# Altium footprint library Package_DIP.PcbLib: 281 footprints (part 8 of 18)
Each footprint in its own frame and in the unit in brackets; x right, y up, seen from the top. Pads: shape width x height; smd on the part's side, far side on the other; paste and mask are expansions set on the pad; w line width, h text height; cw(c..) or ccw(c..) is an arc to the next point about the centre after c.
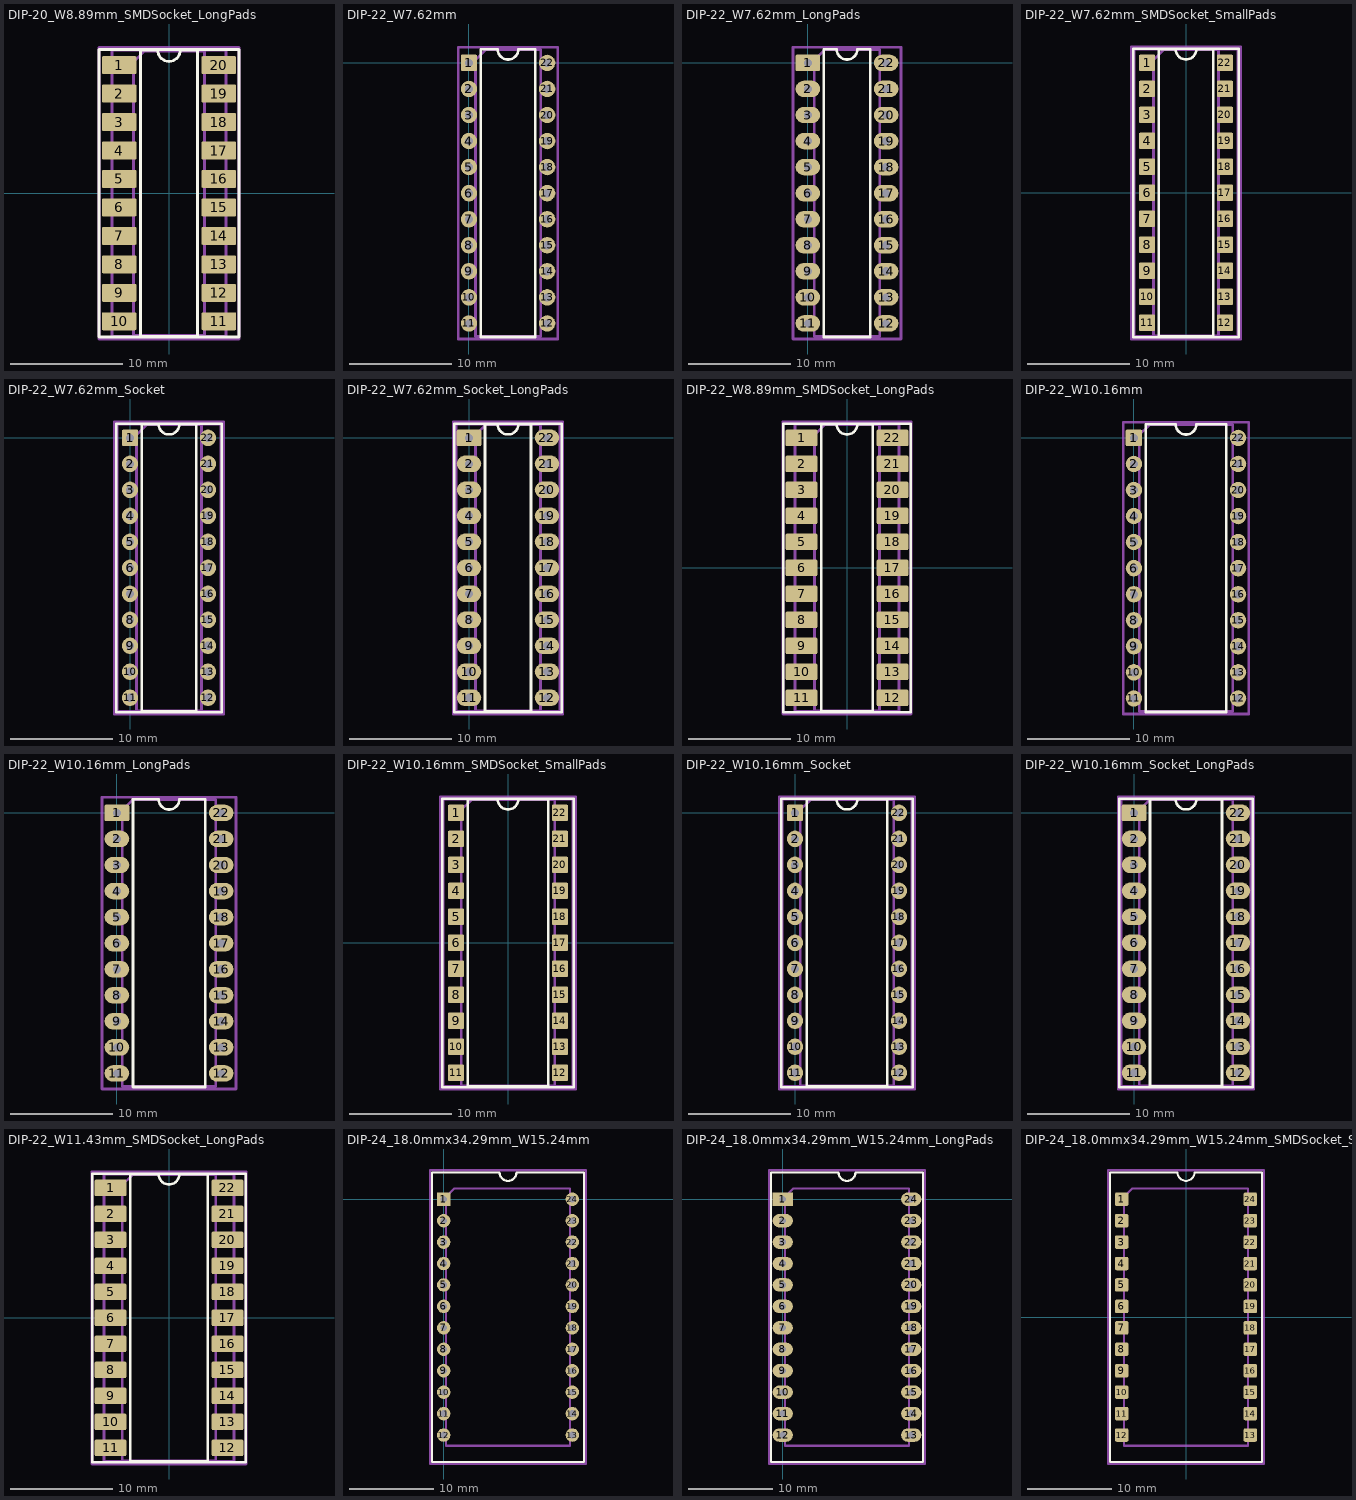
[diagram p7: the footprints below, top view; thin cyan lines are the x and y axes]

## DIP-20_W8.89mm_SMDSocket_LongPads [mm]
pads (20):
  rrect16% 3.1x1.6 smd: 1(-4.445,11.43) 2(-4.445,8.89) 3(-4.445,6.35) 4(-4.445,3.81) 5(-4.445,1.27) 6(-4.445,-1.27) 7(-4.445,-3.81) 8(-4.445,-6.35) 9(-4.445,-8.89) 10(-4.445,-11.43) 11(4.445,-11.43) 12(4.445,-8.89) 13(4.445,-6.35) 14(4.445,-3.81) 15(4.445,-1.27) 16(4.445,1.27) 17(4.445,3.81) 18(4.445,6.35) 19(4.445,8.89) 20(4.445,11.43)
F.SilkS:
  lines w0.254: -6.235,-12.82 6.235,-12.82 6.235,12.82 -6.235,12.82 -6.235,-12.82 ; -2.535,-12.76 2.535,-12.76 2.535,12.76 1,12.76 cw(c0,12.76) -1,12.76 -2.535,12.76 -2.535,-12.76
Top Assembly:
  lines w0.254: -5.08,-12.76 5.08,-12.76 5.08,12.76 -5.08,12.76 -5.08,-12.76 ; -3.175,-12.7 3.175,-12.7 3.175,12.7 -2.175,12.7 -3.175,11.7 -3.175,-12.7
  text "'.Designator'" at 0.84,-4.047 h1
Top Courtyard:
  lines w0.254: -6.25,-13.01 6.25,-13.01 6.25,13.01 -6.25,13.01 -6.25,-13.01
Top Designator:
  text ".Designator" at -7.618,-0.508 h1.52

## DIP-22_W7.62mm [mm]
pads (22):
  rrect16% 1.6x1.6 hole 0.8: 1(0,0)
  round 1.6 hole 0.8: 2(0,-2.54) 3(0,-5.08) 4(0,-7.62) 5(0,-10.16) 6(0,-12.7) 7(0,-15.24) 8(0,-17.78) 9(0,-20.32) 10(0,-22.86) 11(0,-25.4) 12(7.62,-25.4) 13(7.62,-22.86) 14(7.62,-20.32) 15(7.62,-17.78) 16(7.62,-15.24) 17(7.62,-12.7) 18(7.62,-10.16) 19(7.62,-7.62) 20(7.62,-5.08) 21(7.62,-2.54) 22(7.62,0)
F.SilkS:
  lines w0.254: 1.16,-26.73 6.46,-26.73 6.46,1.33 4.81,1.33 cw(c3.81,1.33) 2.81,1.33 1.16,1.33 1.16,-26.73
Top Assembly:
  lines w0.254: 0.635,-26.67 6.985,-26.67 6.985,1.27 1.635,1.27 0.635,0.27 0.635,-26.67
  text "'.Designator'" at 4.65,-16.747 h1
Top Courtyard:
  lines w0.254: -1.06,-26.92 8.67,-26.92 8.67,1.52 -1.06,1.52 -1.06,-26.92
Top Designator:
  text ".Designator" at -3.813,-13.208 h1.52

## DIP-22_W7.62mm_LongPads [mm]
pads (22):
  rrect16% 2.4x1.6 hole 0.8: 1(0,0)
  rrect100% 2.4x1.6 hole 0.8: 2(0,-2.54) 3(0,-5.08) 4(0,-7.62) 5(0,-10.16) 6(0,-12.7) 7(0,-15.24) 8(0,-17.78) 9(0,-20.32) 10(0,-22.86) 11(0,-25.4) 12(7.62,-25.4) 13(7.62,-22.86) 14(7.62,-20.32) 15(7.62,-17.78) 16(7.62,-15.24) 17(7.62,-12.7) 18(7.62,-10.16) 19(7.62,-7.62) 20(7.62,-5.08) 21(7.62,-2.54) 22(7.62,0)
F.SilkS:
  lines w0.254: 1.56,-26.73 6.06,-26.73 6.06,1.33 4.81,1.33 cw(c3.81,1.33) 2.81,1.33 1.56,1.33 1.56,-26.73
Top Assembly:
  lines w0.254: 0.635,-26.67 6.985,-26.67 6.985,1.27 1.635,1.27 0.635,0.27 0.635,-26.67
  text "'.Designator'" at 4.65,-16.747 h1
Top Courtyard:
  lines w0.254: -1.45,-26.92 9.07,-26.92 9.07,1.52 -1.45,1.52 -1.45,-26.92
Top Designator:
  text ".Designator" at -3.808,-13.208 h1.52

## DIP-22_W7.62mm_SMDSocket_SmallPads [mm]
pads (22):
  rrect16% 1.6x1.6 smd: 1(-3.81,12.7) 2(-3.81,10.16) 3(-3.81,7.62) 4(-3.81,5.08) 5(-3.81,2.54) 6(-3.81,0) 7(-3.81,-2.54) 8(-3.81,-5.08) 9(-3.81,-7.62) 10(-3.81,-10.16) 11(-3.81,-12.7) 12(3.81,-12.7) 13(3.81,-10.16) 14(3.81,-7.62) 15(3.81,-5.08) 16(3.81,-2.54) 17(3.81,0) 18(3.81,2.54) 19(3.81,5.08) 20(3.81,7.62) 21(3.81,10.16) 22(3.81,12.7)
F.SilkS:
  lines w0.254: -5.14,-14.09 5.14,-14.09 5.14,14.09 -5.14,14.09 -5.14,-14.09 ; -2.65,-14.03 2.65,-14.03 2.65,14.03 1,14.03 cw(c0,14.03) -1,14.03 -2.65,14.03 -2.65,-14.03
Top Assembly:
  lines w0.254: -5.08,-14.03 5.08,-14.03 5.08,14.03 -5.08,14.03 -5.08,-14.03 ; -3.175,-13.97 3.175,-13.97 3.175,13.97 -2.175,13.97 -3.175,12.97 -3.175,-13.97
  text "'.Designator'" at 0.84,-4.047 h1
Top Courtyard:
  lines w0.254: -5.33,-14.28 5.33,-14.28 5.33,14.28 -5.33,14.28 -5.33,-14.28
Top Designator:
  text ".Designator" at -7.618,-0.508 h1.52

## DIP-22_W7.62mm_Socket [mm]
pads (22):
  rrect16% 1.6x1.6 hole 0.8: 1(0,0)
  round 1.6 hole 0.8: 2(0,-2.54) 3(0,-5.08) 4(0,-7.62) 5(0,-10.16) 6(0,-12.7) 7(0,-15.24) 8(0,-17.78) 9(0,-20.32) 10(0,-22.86) 11(0,-25.4) 12(7.62,-25.4) 13(7.62,-22.86) 14(7.62,-20.32) 15(7.62,-17.78) 16(7.62,-15.24) 17(7.62,-12.7) 18(7.62,-10.16) 19(7.62,-7.62) 20(7.62,-5.08) 21(7.62,-2.54) 22(7.62,0)
F.SilkS:
  lines w0.254: -1.33,-26.79 8.95,-26.79 8.95,1.39 -1.33,1.39 -1.33,-26.79 ; 1.16,-26.73 6.46,-26.73 6.46,1.33 4.81,1.33 cw(c3.81,1.33) 2.81,1.33 1.16,1.33 1.16,-26.73
Top Assembly:
  lines w0.254: -1.27,-26.73 8.89,-26.73 8.89,1.33 -1.27,1.33 -1.27,-26.73 ; 0.635,-26.67 6.985,-26.67 6.985,1.27 1.635,1.27 0.635,0.27 0.635,-26.67
  text "'.Designator'" at 4.65,-16.747 h1
Top Courtyard:
  lines w0.254: -1.52,-26.98 9.14,-26.98 9.14,1.58 -1.52,1.58 -1.52,-26.98
Top Designator:
  text ".Designator" at -3.808,-13.208 h1.52

## DIP-22_W7.62mm_Socket_LongPads [mm]
pads (22):
  rrect16% 2.4x1.6 hole 0.8: 1(0,0)
  rrect100% 2.4x1.6 hole 0.8: 2(0,-2.54) 3(0,-5.08) 4(0,-7.62) 5(0,-10.16) 6(0,-12.7) 7(0,-15.24) 8(0,-17.78) 9(0,-20.32) 10(0,-22.86) 11(0,-25.4) 12(7.62,-25.4) 13(7.62,-22.86) 14(7.62,-20.32) 15(7.62,-17.78) 16(7.62,-15.24) 17(7.62,-12.7) 18(7.62,-10.16) 19(7.62,-7.62) 20(7.62,-5.08) 21(7.62,-2.54) 22(7.62,0)
F.SilkS:
  lines w0.254: -1.44,-26.79 9.06,-26.79 9.06,1.39 -1.44,1.39 -1.44,-26.79 ; 1.56,-26.73 6.06,-26.73 6.06,1.33 4.81,1.33 cw(c3.81,1.33) 2.81,1.33 1.56,1.33 1.56,-26.73
Top Assembly:
  lines w0.254: -1.27,-26.73 8.89,-26.73 8.89,1.33 -1.27,1.33 -1.27,-26.73 ; 0.635,-26.67 6.985,-26.67 6.985,1.27 1.635,1.27 0.635,0.27 0.635,-26.67
  text "'.Designator'" at 4.65,-16.747 h1
Top Courtyard:
  lines w0.254: -1.52,-26.98 9.14,-26.98 9.14,1.58 -1.52,1.58 -1.52,-26.98
Top Designator:
  text ".Designator" at -3.808,-13.208 h1.52

## DIP-22_W8.89mm_SMDSocket_LongPads [mm]
pads (22):
  rrect16% 3.1x1.6 smd: 1(-4.445,12.7) 2(-4.445,10.16) 3(-4.445,7.62) 4(-4.445,5.08) 5(-4.445,2.54) 6(-4.445,0) 7(-4.445,-2.54) 8(-4.445,-5.08) 9(-4.445,-7.62) 10(-4.445,-10.16) 11(-4.445,-12.7) 12(4.445,-12.7) 13(4.445,-10.16) 14(4.445,-7.62) 15(4.445,-5.08) 16(4.445,-2.54) 17(4.445,0) 18(4.445,2.54) 19(4.445,5.08) 20(4.445,7.62) 21(4.445,10.16) 22(4.445,12.7)
F.SilkS:
  lines w0.254: -6.235,-14.09 6.235,-14.09 6.235,14.09 -6.235,14.09 -6.235,-14.09 ; -2.535,-14.03 2.535,-14.03 2.535,14.03 1,14.03 cw(c0,14.03) -1,14.03 -2.535,14.03 -2.535,-14.03
Top Assembly:
  lines w0.254: -5.08,-14.03 5.08,-14.03 5.08,14.03 -5.08,14.03 -5.08,-14.03 ; -3.175,-13.97 3.175,-13.97 3.175,13.97 -2.175,13.97 -3.175,12.97 -3.175,-13.97
  text "'.Designator'" at 0.84,-4.047 h1
Top Courtyard:
  lines w0.254: -6.25,-14.28 6.25,-14.28 6.25,14.28 -6.25,14.28 -6.25,-14.28
Top Designator:
  text ".Designator" at -7.618,-0.508 h1.52

## DIP-22_W10.16mm [mm]
pads (22):
  rrect16% 1.6x1.6 hole 0.8: 1(0,0)
  round 1.6 hole 0.8: 2(0,-2.54) 3(0,-5.08) 4(0,-7.62) 5(0,-10.16) 6(0,-12.7) 7(0,-15.24) 8(0,-17.78) 9(0,-20.32) 10(0,-22.86) 11(0,-25.4) 12(10.16,-25.4) 13(10.16,-22.86) 14(10.16,-20.32) 15(10.16,-17.78) 16(10.16,-15.24) 17(10.16,-12.7) 18(10.16,-10.16) 19(10.16,-7.62) 20(10.16,-5.08) 21(10.16,-2.54) 22(10.16,0)
F.SilkS:
  lines w0.254: 1.16,-26.73 9,-26.73 9,1.33 6.08,1.33 cw(c5.08,1.33) 4.08,1.33 1.16,1.33 1.16,-26.73
Top Assembly:
  lines w0.254: 0.51,-26.67 9.65,-26.67 9.65,1.27 1.51,1.27 0.51,0.27 0.51,-26.67
  text "'.Designator'" at 5.92,-16.747 h1
Top Courtyard:
  lines w0.254: -1.05,-26.92 11.21,-26.92 11.21,1.52 -1.05,1.52 -1.05,-26.92
Top Designator:
  text ".Designator" at -2.538,-13.208 h1.52

## DIP-22_W10.16mm_LongPads [mm]
pads (22):
  rrect16% 2.4x1.6 hole 0.8: 1(0,0)
  rrect100% 2.4x1.6 hole 0.8: 2(0,-2.54) 3(0,-5.08) 4(0,-7.62) 5(0,-10.16) 6(0,-12.7) 7(0,-15.24) 8(0,-17.78) 9(0,-20.32) 10(0,-22.86) 11(0,-25.4) 12(10.16,-25.4) 13(10.16,-22.86) 14(10.16,-20.32) 15(10.16,-17.78) 16(10.16,-15.24) 17(10.16,-12.7) 18(10.16,-10.16) 19(10.16,-7.62) 20(10.16,-5.08) 21(10.16,-2.54) 22(10.16,0)
F.SilkS:
  lines w0.254: 1.56,-26.73 8.6,-26.73 8.6,1.33 6.08,1.33 cw(c5.08,1.33) 4.08,1.33 1.56,1.33 1.56,-26.73
Top Assembly:
  lines w0.254: 0.51,-26.67 9.65,-26.67 9.65,1.27 1.51,1.27 0.51,0.27 0.51,-26.67
  text "'.Designator'" at 5.92,-16.747 h1
Top Courtyard:
  lines w0.254: -1.46,-26.92 11.61,-26.92 11.61,1.52 -1.46,1.52 -1.46,-26.92
Top Designator:
  text ".Designator" at -2.543,-13.208 h1.52

## DIP-22_W10.16mm_SMDSocket_SmallPads [mm]
pads (22):
  rrect16% 1.6x1.6 smd: 1(-5.08,12.7) 2(-5.08,10.16) 3(-5.08,7.62) 4(-5.08,5.08) 5(-5.08,2.54) 6(-5.08,0) 7(-5.08,-2.54) 8(-5.08,-5.08) 9(-5.08,-7.62) 10(-5.08,-10.16) 11(-5.08,-12.7) 12(5.08,-12.7) 13(5.08,-10.16) 14(5.08,-7.62) 15(5.08,-5.08) 16(5.08,-2.54) 17(5.08,0) 18(5.08,2.54) 19(5.08,5.08) 20(5.08,7.62) 21(5.08,10.16) 22(5.08,12.7)
F.SilkS:
  lines w0.254: -6.41,-14.09 6.41,-14.09 6.41,14.09 -6.41,14.09 -6.41,-14.09 ; -3.92,-14.03 3.92,-14.03 3.92,14.03 1,14.03 cw(c0,14.03) -1,14.03 -3.92,14.03 -3.92,-14.03
Top Assembly:
  lines w0.254: -6.35,-14.03 6.35,-14.03 6.35,14.03 -6.35,14.03 -6.35,-14.03 ; -4.57,-13.97 4.57,-13.97 4.57,13.97 -3.57,13.97 -4.57,12.97 -4.57,-13.97
  text "'.Designator'" at 0.84,-4.047 h1
Top Courtyard:
  lines w0.254: -6.6,-14.28 6.6,-14.28 6.6,14.28 -6.6,14.28 -6.6,-14.28
Top Designator:
  text ".Designator" at -7.618,-0.508 h1.52

## DIP-22_W10.16mm_Socket [mm]
pads (22):
  rrect16% 1.6x1.6 hole 0.8: 1(0,0)
  round 1.6 hole 0.8: 2(0,-2.54) 3(0,-5.08) 4(0,-7.62) 5(0,-10.16) 6(0,-12.7) 7(0,-15.24) 8(0,-17.78) 9(0,-20.32) 10(0,-22.86) 11(0,-25.4) 12(10.16,-25.4) 13(10.16,-22.86) 14(10.16,-20.32) 15(10.16,-17.78) 16(10.16,-15.24) 17(10.16,-12.7) 18(10.16,-10.16) 19(10.16,-7.62) 20(10.16,-5.08) 21(10.16,-2.54) 22(10.16,0)
F.SilkS:
  lines w0.254: -1.33,-26.79 11.49,-26.79 11.49,1.39 -1.33,1.39 -1.33,-26.79 ; 1.16,-26.73 9,-26.73 9,1.33 6.08,1.33 cw(c5.08,1.33) 4.08,1.33 1.16,1.33 1.16,-26.73
Top Assembly:
  lines w0.254: -1.27,-26.73 11.43,-26.73 11.43,1.33 -1.27,1.33 -1.27,-26.73 ; 0.51,-26.67 9.65,-26.67 9.65,1.27 1.51,1.27 0.51,0.27 0.51,-26.67
  text "'.Designator'" at 5.92,-16.747 h1
Top Courtyard:
  lines w0.254: -1.52,-26.98 11.68,-26.98 11.68,1.58 -1.52,1.58 -1.52,-26.98
Top Designator:
  text ".Designator" at -2.538,-13.208 h1.52

## DIP-22_W10.16mm_Socket_LongPads [mm]
pads (22):
  rrect16% 2.4x1.6 hole 0.8: 1(0,0)
  rrect100% 2.4x1.6 hole 0.8: 2(0,-2.54) 3(0,-5.08) 4(0,-7.62) 5(0,-10.16) 6(0,-12.7) 7(0,-15.24) 8(0,-17.78) 9(0,-20.32) 10(0,-22.86) 11(0,-25.4) 12(10.16,-25.4) 13(10.16,-22.86) 14(10.16,-20.32) 15(10.16,-17.78) 16(10.16,-15.24) 17(10.16,-12.7) 18(10.16,-10.16) 19(10.16,-7.62) 20(10.16,-5.08) 21(10.16,-2.54) 22(10.16,0)
F.SilkS:
  lines w0.254: -1.44,-26.79 11.6,-26.79 11.6,1.39 -1.44,1.39 -1.44,-26.79 ; 1.56,-26.73 8.6,-26.73 8.6,1.33 6.08,1.33 cw(c5.08,1.33) 4.08,1.33 1.56,1.33 1.56,-26.73
Top Assembly:
  lines w0.254: -1.27,-26.73 11.43,-26.73 11.43,1.33 -1.27,1.33 -1.27,-26.73 ; 0.51,-26.67 9.65,-26.67 9.65,1.27 1.51,1.27 0.51,0.27 0.51,-26.67
  text "'.Designator'" at 5.92,-16.747 h1
Top Courtyard:
  lines w0.254: -1.52,-26.98 11.68,-26.98 11.68,1.58 -1.52,1.58 -1.52,-26.98
Top Designator:
  text ".Designator" at -2.538,-13.208 h1.52

## DIP-22_W11.43mm_SMDSocket_LongPads [mm]
pads (22):
  rrect16% 3.1x1.6 smd: 1(-5.715,12.7) 2(-5.715,10.16) 3(-5.715,7.62) 4(-5.715,5.08) 5(-5.715,2.54) 6(-5.715,0) 7(-5.715,-2.54) 8(-5.715,-5.08) 9(-5.715,-7.62) 10(-5.715,-10.16) 11(-5.715,-12.7) 12(5.715,-12.7) 13(5.715,-10.16) 14(5.715,-7.62) 15(5.715,-5.08) 16(5.715,-2.54) 17(5.715,0) 18(5.715,2.54) 19(5.715,5.08) 20(5.715,7.62) 21(5.715,10.16) 22(5.715,12.7)
F.SilkS:
  lines w0.254: -7.505,-14.09 7.505,-14.09 7.505,14.09 -7.505,14.09 -7.505,-14.09 ; -3.805,-14.03 3.805,-14.03 3.805,14.03 1,14.03 cw(c0,14.03) -1,14.03 -3.805,14.03 -3.805,-14.03
Top Assembly:
  lines w0.254: -6.35,-14.03 6.35,-14.03 6.35,14.03 -6.35,14.03 -6.35,-14.03 ; -4.57,-13.97 4.57,-13.97 4.57,13.97 -3.57,13.97 -4.57,12.97 -4.57,-13.97
  text "'.Designator'" at 0.84,-4.047 h1
Top Courtyard:
  lines w0.254: -7.52,-14.28 7.52,-14.28 7.52,14.28 -7.52,14.28 -7.52,-14.28
Top Designator:
  text ".Designator" at -7.618,-0.508 h1.52

## DIP-24_18.0mmx34.29mm_W15.24mm [mm]
pads (24):
  rect 1.6x1.6 hole 0.8: 1(0,0)
  rrect100% 1.6x1.6 hole 0.8: 2(0,-2.54) 3(0,-5.08) 4(0,-7.62) 5(0,-10.16) 6(0,-12.7) 7(0,-15.24) 8(0,-17.78) 9(0,-20.32) 10(0,-22.86) 11(0,-25.4) 12(0,-27.94) 13(15.24,-27.94) 14(15.24,-25.4) 15(15.24,-22.86) 16(15.24,-20.32) 17(15.24,-17.78) 18(15.24,-15.24) 19(15.24,-12.7) 20(15.24,-10.16) 21(15.24,-7.62) 22(15.24,-5.08) 23(15.24,-2.54) 24(15.24,0)
F.SilkS:
  lines w0.254: -1.38,-31.115 16.62,-31.115 16.62,3.175 8.62,3.175 cw(c7.62,3.175) 6.62,3.175 -1.38,3.175 -1.38,-31.115
Top Assembly:
  lines w0.254: 0.255,-29.21 14.985,-29.21 14.985,1.27 1.255,1.27 0.255,0.27 0.255,-29.21
  text "'.Designator'" at 3.573,-14.81 h1
Top Courtyard:
  lines w0.254: -1.63,-31.37 16.87,-31.37 16.87,3.43 -1.63,3.43 -1.63,-31.37
Top Designator:
  text ".Designator" at 0.002,-14.478 h1.52

## DIP-24_18.0mmx34.29mm_W15.24mm_LongPads [mm]
pads (24):
  rect 2.4x1.6 hole 0.8: 1(0,0)
  rrect100% 2.4x1.6 hole 0.8: 2(0,-2.54) 3(0,-5.08) 4(0,-7.62) 5(0,-10.16) 6(0,-12.7) 7(0,-15.24) 8(0,-17.78) 9(0,-20.32) 10(0,-22.86) 11(0,-25.4) 12(0,-27.94) 13(15.24,-27.94) 14(15.24,-25.4) 15(15.24,-22.86) 16(15.24,-20.32) 17(15.24,-17.78) 18(15.24,-15.24) 19(15.24,-12.7) 20(15.24,-10.16) 21(15.24,-7.62) 22(15.24,-5.08) 23(15.24,-2.54) 24(15.24,0)
F.SilkS:
  lines w0.254: -1.38,-31.115 16.62,-31.115 16.62,3.175 8.62,3.175 cw(c7.62,3.175) 6.62,3.175 -1.38,3.175 -1.38,-31.115
Top Assembly:
  lines w0.254: 0.255,-29.21 14.985,-29.21 14.985,1.27 1.255,1.27 0.255,0.27 0.255,-29.21
  text "'.Designator'" at 3.573,-14.81 h1
Top Courtyard:
  lines w0.254: -1.63,-31.37 16.87,-31.37 16.87,3.43 -1.63,3.43 -1.63,-31.37
Top Designator:
  text ".Designator" at 0.002,-14.478 h1.52

## DIP-24_18.0mmx34.29mm_W15.24mm_SMDSocket_SmallPads [mm]
pads (24):
  rrect25% 1.6x1.6 smd: 1(-7.62,13.97) 2(-7.62,11.43) 3(-7.62,8.89) 4(-7.62,6.35) 5(-7.62,3.81) 6(-7.62,1.27) 7(-7.62,-1.27) 8(-7.62,-3.81) 9(-7.62,-6.35) 10(-7.62,-8.89) 11(-7.62,-11.43) 12(-7.62,-13.97) 13(7.62,-13.97) 14(7.62,-11.43) 15(7.62,-8.89) 16(7.62,-6.35) 17(7.62,-3.81) 18(7.62,-1.27) 19(7.62,1.27) 20(7.62,3.81) 21(7.62,6.35) 22(7.62,8.89) 23(7.62,11.43) 24(7.62,13.97)
F.SilkS:
  lines w0.254: -9,-17.145 9,-17.145 9,17.145 1,17.145 cw(c0,17.145) -1,17.145 -9,17.145 -9,-17.145
Top Assembly:
  lines w0.254: -7.365,-15.24 7.365,-15.24 7.365,15.24 -6.365,15.24 -7.365,14.24 -7.365,-15.24
  text "'.Designator'" at -4.047,-0.84 h1
Top Courtyard:
  lines w0.254: -9.25,-17.4 9.25,-17.4 9.25,17.4 -9.25,17.4 -9.25,-17.4
Top Designator:
  text ".Designator" at -7.618,-0.508 h1.52